# EAGLE library part CONN_8 (library formula electric)
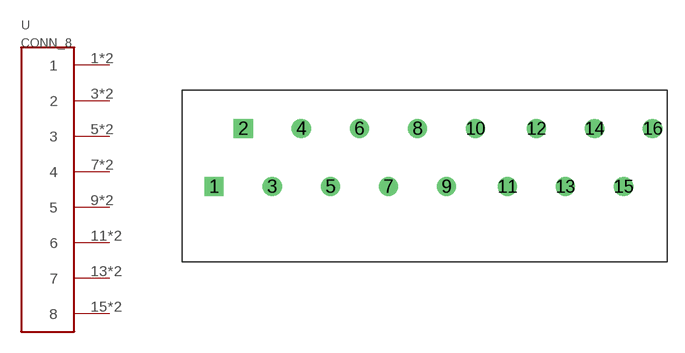
[diagram p11: symbol with the pads of CONNECTOR_8; footprint CONNECTOR_8]

Designator prefix -

## CONN_8  [CONNECTOR_8]
1  1
2  1
3  2
4  2
5  3
6  3
7  4
8  4
9  5
10  5
11  6
12  6
13  7
14  7
15  8
16  8

## Footprint CONNECTOR_8 (pad centres in mm)
drill 1.1 square: 1 -2.54,-5.08; 2 -0.04,-0.08
drill 1.1: 3 2.46,-5.08; 4 4.96,-0.08; 5 7.46,-5.08; 6 9.96,-0.08; 7 12.46,-5.08; 8 14.96,-0.08; 9 17.46,-5.08; 10 19.96,-0.08; 11 22.7,-5.08; 12 25.2,-0.08; 13 27.7,-5.08; 14 30.2,-0.08; 15 32.7,-5.08; 16 35.2,-0.08